# EAGLE library part TCA9406DCTR (library TCA9406DCTR)
2-BIT BIDIRECTIONAL 1MHz, I2C BUS AND SMBUS VOLTAGE-LEVEL TRANSLATOR WITH 8kV HBM ESD,SM8-8
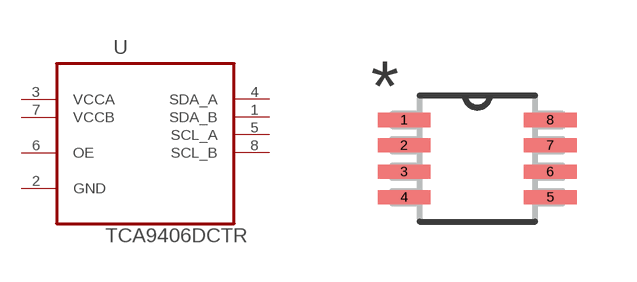
[diagram p0: symbol with the pads of SOP65P400X130-8N; footprint SOP65P400X130-8N]

Designator prefix U

## TCA9406DCTR (MPN: TCA9406DCTR; OC_FARNELL: 1972384; OC_NEWARK: 86W6768; PACKAGE: SM8-8; SUPPLIER: TEXAS INSTRUMENTS)  [SOP65P400X130-8N]
1  SDA_B
2  GND  pwr
3  VCCA  pwr
4  SDA_A
5  SCL_A
6  OE  in
7  VCCB  pwr
8  SCL_B

## Footprint SOP65P400X130-8N (pad centres in mm)
smd 1.321 x 0.356: 1 -1.829,0.965; 2 -1.829,0.33; 3 -1.829,-0.33; 4 -1.829,-0.965; 5 1.829,-0.965; 6 1.829,-0.33; 7 1.829,0.33; 8 1.829,0.965